# Altium footprint library DO-35.PcbLib: 2 footprints
Each footprint in its own frame and in the unit in brackets; x right, y up, seen from the top. Pads: shape width x height; smd on the part's side, far side on the other; paste and mask are expansions set on the pad; w line width, h text height; cw(c..) or ccw(c..) is an arc to the next point about the centre after c.
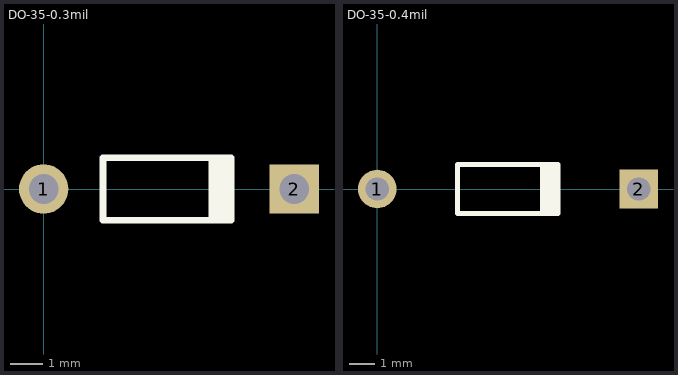
[diagram p0: the footprints below, top view; thin cyan lines are the x and y axes]

## DO-35-0.3mil [mm] "Diode, Axial; Body 3.8 x 1.9 mm (LxDia. max), Lead Dia. 0.53 mm (max)"
height 1.9
pads (2):
  round 1.5 hole 0.9: 1(0,0)
  rect 1.5x1.5 hole 0.9: 2(7.62,0)
Top Overlay:
  rectangle: 5.003,-0.95 5.803,0.95
  lines w0.2: 5.703,-0.95 1.803,-0.95 1.803,0.95 5.703,0.95
3D body "DO-35-30.step": height 2.21, standoff -1.8, extent -0.26,-1.016 7.88,1.004

## DO-35-0.4mil [mm] "Diode, Axial; Body 3.8 x 1.9 mm (LxDia. max), Lead Dia. 0.53 mm (max)"
height 1.9
pads (2):
  round 1.5 hole 0.9: 1(0,0)
  rect 1.5x1.5 hole 0.9: 2(10.16,0)
Top Overlay:
  rectangle: 6.324,-0.95 7.124,0.95
  lines w0.2: 7.024,-0.95 3.124,-0.95 3.124,0.95 7.024,0.95
3D body: height 0.55, standoff 0, extent 4.953,0.127 4.953,0.127
3D body "DO-35-40.step": height 2.15, standoff -2.54, extent -0.267,-0.864 10.427,0.889